# EAGLE library part TS12001 (library PMIC)
0.65V/1μA Nanopower Voltage Detector with Dual Outputs
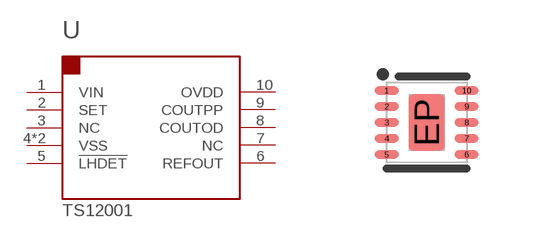
[diagram p0: symbol with the pads of 10-DFN-EP; footprint 10-DFN-EP]

Designator prefix U

## TS12001 (PARTNO: 01-100490-00)  [10-DFN-EP]
1  VIN  pwr
2  SET
3  NC  nc
4  VSS  pwr
5  !LHDET
6  REFOUT  out
7  NC  nc
8  COUTOD  out
9  COUTPP  out
10  OVDD  out
EP  VSS  pwr

## Footprint 10-DFN-EP (pad centres in mm)
2 x 2mm 10-DFN Exposed Pad
smd 0.6 x 0.2: 1 -1,0.8; 2 -1,0.4; 3 -1,0; 4 -1,-0.4; 5 -1,-0.8; 6 1,-0.8; 7 1,-0.4; 8 1,0; 9 1,0.4; 10 1,0.8
smd 0.9 x 1.4: EP 0,0